# EAGLE library part PINHEADER-8*1 (library PINHEADER)
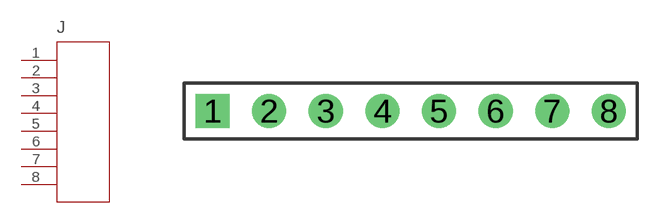
[diagram p1: symbol with the pads of PINHEADER-8*1; footprint PINHEADER-8*1]

Designator prefix J

## PINHEADER-818*1  [PINHEADER-8*1]
1  1
2  2
3  3
4  4
5  5
6  6
7  7
8  8

## Footprint PINHEADER-8*1 (pad centres in mm)
drill 1.02 square: 1 -6.35,0
drill 1.02: 2 -3.81,0; 3 -1.27,0; 4 1.27,0; 5 3.81,0; 6 6.35,0; 7 8.89,0; 8 11.43,0